# EAGLE library part AVR_CONNECTOR (library avr_connector)
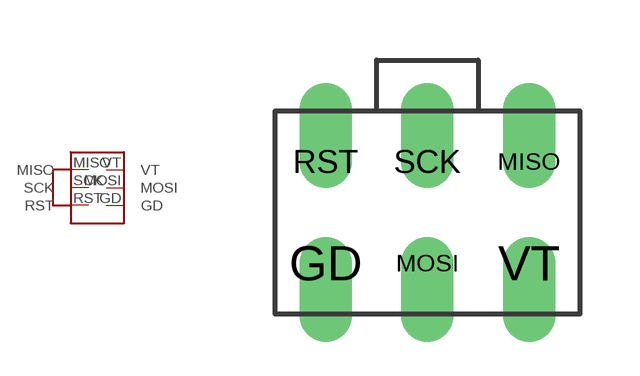
[diagram p0: symbol with the pads of AVR_CONNECTOR; footprint AVR_CONNECTOR]

Designator prefix -

## AVR_CONNECTOR  [AVR_CONNECTOR]
GD  GD
MISO  MISO
MOSI  MOSI
RST  RST
SCK  SCK
VT  VT

## Footprint AVR_CONNECTOR (pad centres in mm)
drill 0.8 offset: GD -12.7,0; MISO -7.62,2.54; MOSI -10.16,0; RST -12.7,2.54; SCK -10.16,2.54; VT -7.62,0